# EAGLE library part 750312791 (library WE-FLYTI)
WE-FLYTI Flyback Transformers Characteristics Low leakage inductance Multiple package sizes Wide range input voltages Different output voltages available Isolation voltage: up to 3000VAC Lead free and RoHS compliant Operating temp: -40°C to 125°C Applications Industrial and medical power supplies Auxiliary power supplies Home automation Isolated DC/DC power supplies <https://www.we-online.com/components/media/o795300v209%20FAMILY-MID-FLYTI.jpg> Details see: www.we-online.com/en/components/products/WE-FLYTI <www.we-online.com/catalog/WE-FLYTI/?utm_source=eagle_model&utm_medium=description_link&utm_campaign=eisos_eagle> Created by Ella Wu 2024-07-03 2024 (C) Wurth Elektronik
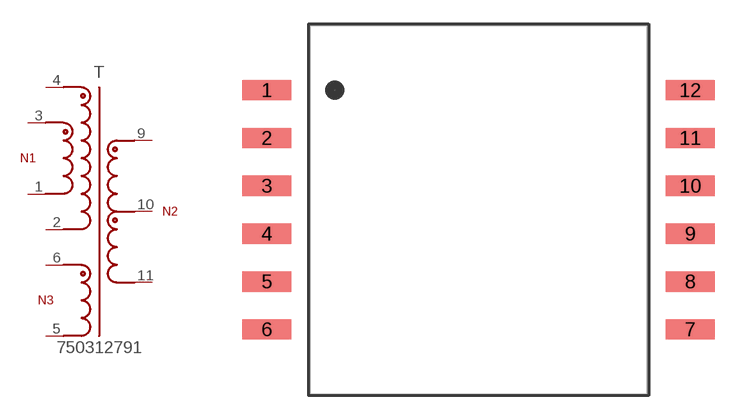
[diagram p19: symbol with the pads of WE-FLYTI_EFD20_5899; footprint WE-FLYTI_EFD20_5899]

Designator prefix T

## 750312791 (DATASHEET-URL: https://www.we-online.com/redexpert/spec/750312791?ae; IOUT1: 350mA; ISAT: 8.75A; L: 10uH; LS: 100nH; MOUNT: SMT; N: 1:5:1.13; PART-NUMBER: 750312791; SIZE: EFD20; VALUE: 750312791; VAUX: 12V; VIN: 9 - 57 V (DC); VOUT1: 56V; VT: 1500V(AC))  [WE-FLYTI_EFD20_5899]
1  1  pas
2  2  pas
3  3  pas
4  4  pas
5  5  pas
6  6  pas
9  9  pas
10  10  pas
11  11  pas

## Footprint WE-FLYTI_EFD20_5899 (pad centres in mm)
WE-FLYTI Flyback Transformers Size:EFD20,SMT,12pins Bobbin: 070-5899
smd 3.05 x 1.27: 1 -13.26,7.5; 2 -13.26,4.5; 3 -13.26,1.5; 4 -13.26,-1.5; 5 -13.26,-4.5; 6 -13.26,-7.5; 7 13.26,-7.5; 8 13.26,-4.5; 9 13.26,-1.5; 10 13.26,1.5; 11 13.26,4.5; 12 13.26,7.5